# Altium footprint library SC5211EWA.PcbLib: 1 footprints
Each footprint in its own frame and in the unit in brackets; x right, y up, seen from the top. Pads: shape width x height; smd on the part's side, far side on the other; paste and mask are expansions set on the pad; w line width, h text height; cw(c..) or ccw(c..) is an arc to the next point about the centre after c.
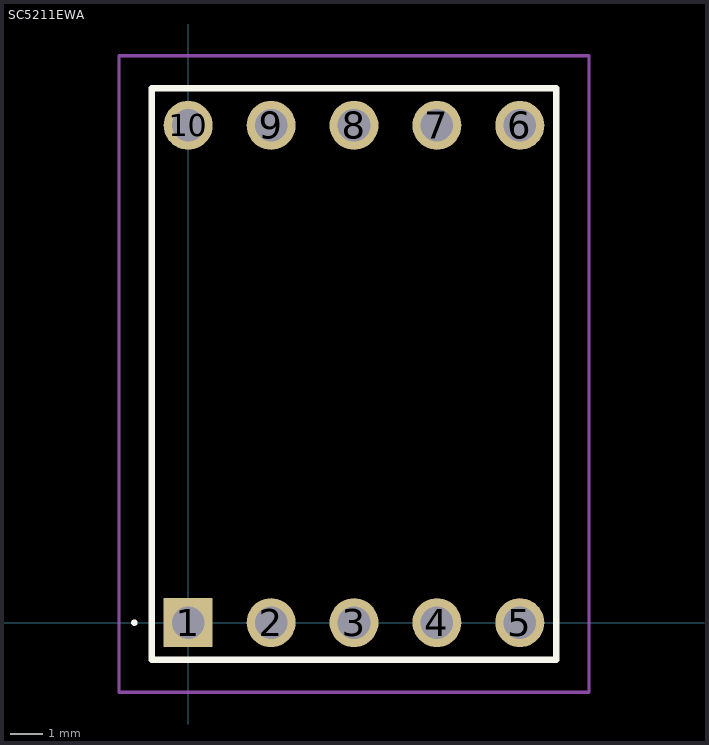
[diagram p0: the footprint, top view; thin cyan lines are the x and y axes]

## SC5211EWA [mm]
pads (10):
  rect 1.5x1.5 hole 1: 1(0,0)
  round 1.5 hole 1: 2(2.54,0) 3(5.08,0) 4(7.62,0) 5(10.16,0) 6(10.16,15.24) 7(7.62,15.24) 8(5.08,15.24) 9(2.54,15.24) 10(0,15.24)
Top Overlay:
  lines w0.1: -1.7,0 cw(c-1.65,0) -1.6,0 ; -1.7,0 -1.7,0 ; -1.7,0 ccw(c-1.65,0) -1.6,0 ; -1.6,0 -1.6,0
  lines w0.2: -1.12,-1.13 11.28,-1.13 11.28,16.37 -1.12,16.37 -1.12,-1.13
Mechanical 15:
  lines w0.1: -1.12,-1.13 11.28,-1.13 11.28,16.37 -1.12,16.37 -1.12,-1.13
Mechanical 20:
  lines w0.1: -2.12,-2.13 12.28,-2.13 12.28,17.37 -2.12,17.37 -2.12,-2.13